# EAGLE library part MGA-86563-TR1G (library Avago_By_element14_Batch_1)
Low Noise GaAs MMIC Amplifier
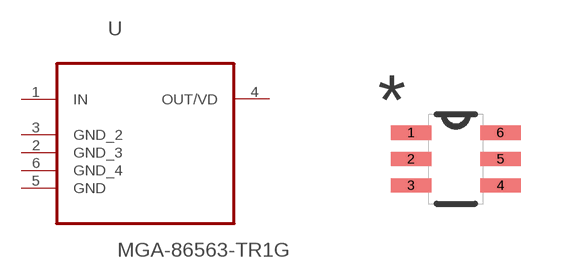
[diagram p30: symbol with the pads of SOT65P210X110-6N; footprint SOT65P210X110-6N]

Designator prefix U

## MGA-86563-TR1G (DESCRIPTION: Low Noise GaAs MMIC Amplifier; MPN: MGA-86563-TR1G; OC_FARNELL: -; OC_NEWARK: 64J0372; PACKAGE: SC-70-6; SUPPLIER: Avago Technologies)  [SOT65P210X110-6N]
1  IN  in
2  GND_3  pas
3  GND_2  pas
4  OUT/VD  out
5  GND  pas
6  GND_4  pas

## Footprint SOT65P210X110-6N (pad centres in mm)
smd 1.016 x 0.356: 1 -1.118,0.66; 2 -1.118,0; 3 -1.118,-0.66; 4 1.118,-0.66; 5 1.118,0; 6 1.118,0.66